# Altium footprint library A.PcbLib: 25 footprints (part 1 of 2)
Each footprint in its own frame and in the unit in brackets; x right, y up, seen from the top. Pads: shape width x height; smd on the part's side, far side on the other; paste and mask are expansions set on the pad; w line width, h text height; cw(c..) or ccw(c..) is an arc to the next point about the centre after c.
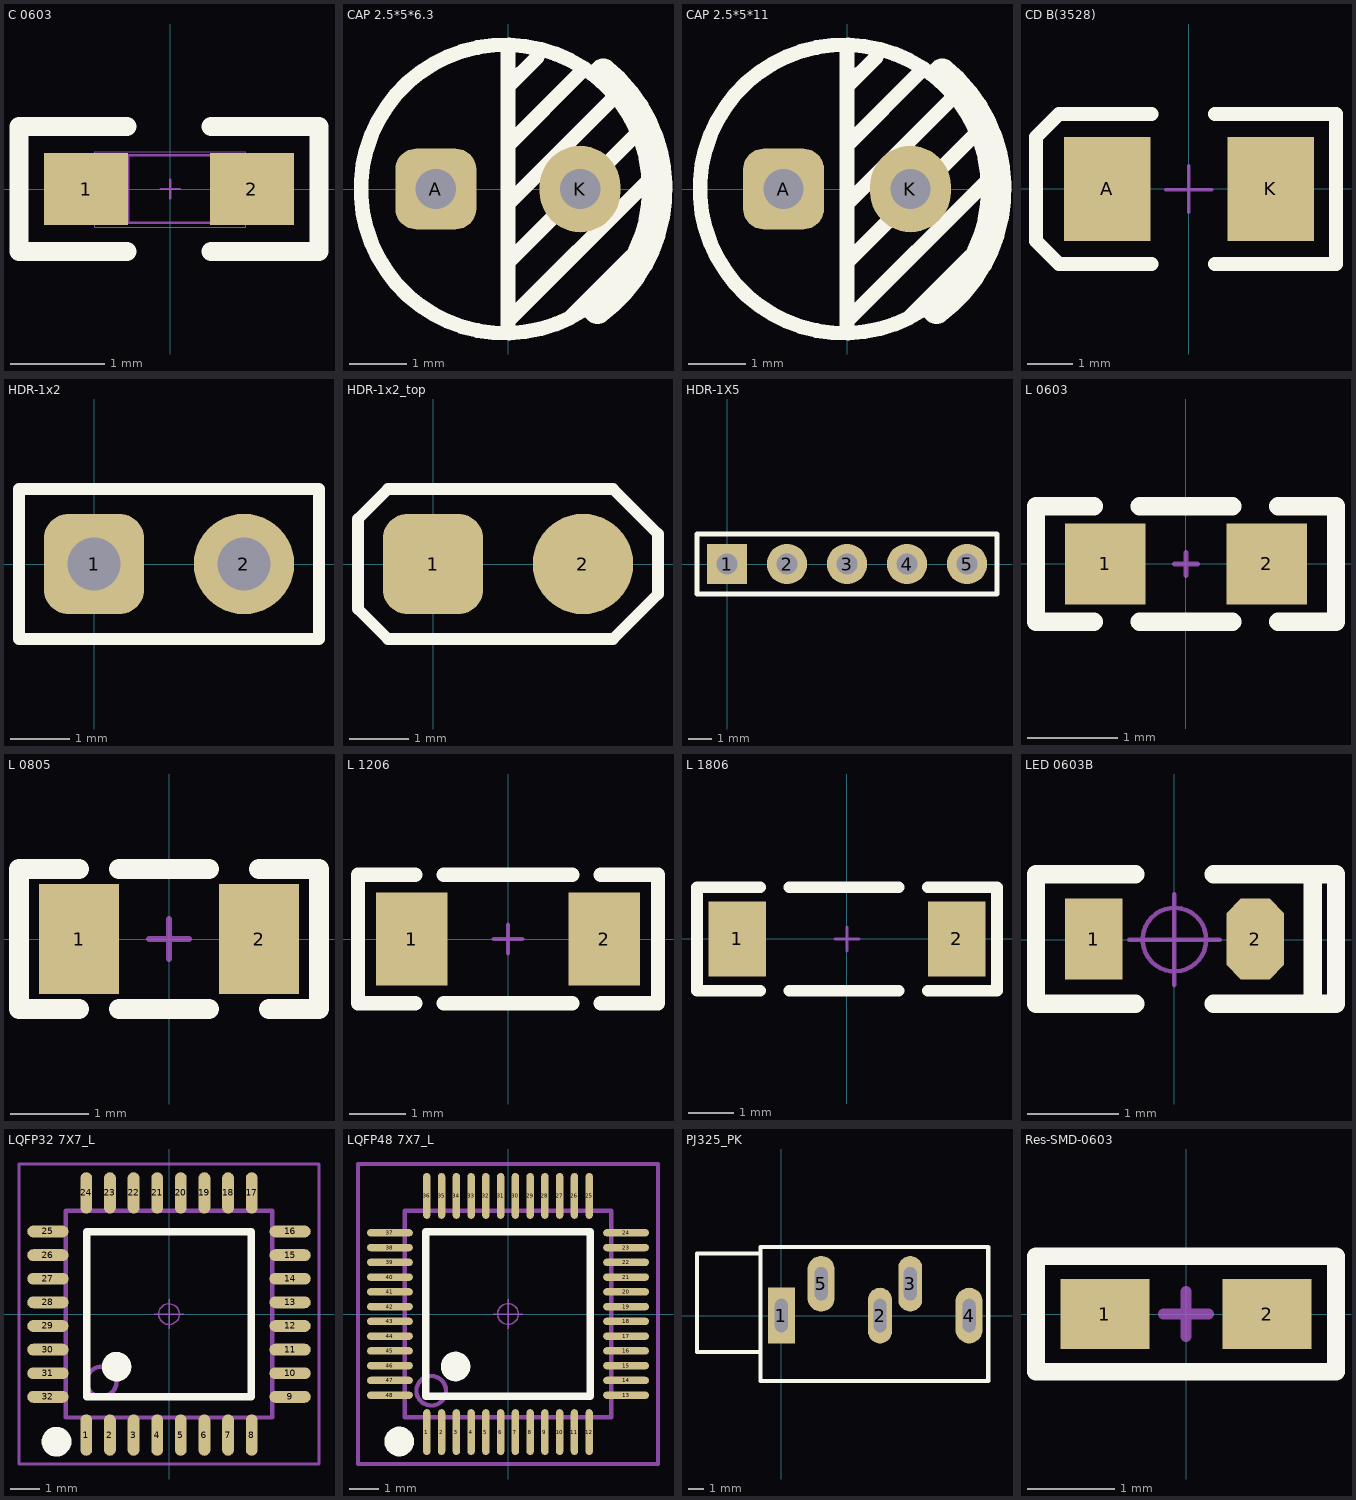
[diagram p0: the footprints below, top view; thin cyan lines are the x and y axes]

## C 0603 [mil] "无极性贴片电容"
pads (2):
  rect 35x30 smd: 1(-35,0) 2(34,0)
Top Overlay:
  lines w8: -18,-26 -63,-26 -63,26 -18,26 ; 17,-26 62,-26 62,26 17,26
Mechanical 13:
  lines w0.39: -31.5,-16 31.5,-16 31.5,15.5 -31.5,15.5 -31.5,-16
Mechanical 15:
  lines w1: -17.5,-14 -17.5,14 ; -3.94,0 3.94,0 ; 0,-3.94 0,3.94 ; 17.5,-14 17.5,14 ; -32,-14 32,-14 32,14 -32,14 -32,-14
3D body "C 0603.STEP": height 31.89, standoff -0.39, extent -31.5,-16.14 31.5,16.14

## CAP 2.5*5*6.3 [mm]
pads (2):
  rrect50% 1.4x1.4 hole 0.7: A(-1.25,0)
  oval 1.4x1.5 hole 0.7: K(1.25,0)
Top Overlay:
  circle w0.254: c-0.05,0 r2.5
  lines w0.254: 0,-2.489 0,2.413 ; 0,-2.286 2.438,0.152 ; 0,-1.27 2.222,0.953 ; 0,-0.254 1.841,1.587 ; 0,0.762 1.27,2.032 ; 0,1.778 0.508,2.286 ; 1.079,-2.222 2.134,-1.168
  lines w0.5: 1.552,-2.086 ccw(c0,0) 1.651,2.008
3D body "CAP 2.5X5X11.STEP": height 11.03, standoff -3.43, extent -2.5,-2.498 2.51,2.498

## CAP 2.5*5*11 [mm] "脚距2.5mm直径5mm高度11mm"
pads (2):
  rrect50% 1.4x1.4 hole 0.7: A(-1.1,0)
  oval 1.4x1.5 hole 0.7: K(1.1,0)
Top Overlay:
  circle w0.254: c-0.05,0 r2.5
  lines w0.254: 0,-2.489 0,2.413 ; 0,-2.286 2.438,0.152 ; 0,-1.27 2.222,0.953 ; 0,-0.254 1.841,1.587 ; 0,0.762 1.27,2.032 ; 0,1.778 0.508,2.286 ; 1.079,-2.222 2.134,-1.168
  lines w0.5: 1.552,-2.086 ccw(c0,0) 1.651,2.008
3D body "CAP 2.5X5X11.STEP": height 11.03, standoff -3.43, extent -2.5,-2.499 2.51,2.499

## CD B(3528) [mil] "长3.5mm，宽2.8mm，厚1.9mm"
pads (2):
  rect 75x90 smd: A(-70.87,-0.01) K(70.86,-0.01)
Top Overlay:
  lines w12: -32.51,-65.01 -112.51,-65.01 -132.51,-45.01 -132.51,44.99 -112.51,64.99 -32.51,64.99 ; 22.49,-65.01 127.49,-65.01 127.49,64.99 22.49,64.99
Mechanical 15:
  lines w3: -20.01,-0.79 19.99,-0.79 ; -0.01,-20.01 -0.01,19.99
3D body "CD B(3528).STEP": height 74.84, standoff -0.3, extent -68.92,-55.12 68.91,55.11

## HDR-1x2 [mm] "排针，2脚"
pads (2):
  rrect50% 1.7x1.7 hole 0.9: 1(0,0)
  round 1.7 hole 0.9: 2(2.54,0)
Top Overlay:
  lines w0.2: -1.27,-1.27 3.81,-1.27 3.81,1.27 -1.27,1.27 -1.27,-1.27
3D body "HDR2.54-1P.STEP": height 8.5, standoff -3, extent -1.27,-1.27 1.27,1.27
3D body "HDR2.54-1P.STEP": height 8.5, standoff -3, extent 1.27,-1.27 3.81,1.27

## HDR-1x2_top [mm] "排针，2脚"
pads (2):
  rrect50% 1.7x1.7 smd: 1(0,0)
  round 1.7 smd: 2(2.54,0)
Top Overlay:
  lines w0.2: -1.27,-0.762 -1.27,0.762 -0.762,1.27 3.048,1.27 3.81,0.508 3.81,-0.508 3.048,-1.27 -0.762,-1.27 -1.27,-0.762
3D body "HDR2.54-1P.STEP": height 8.5, standoff -3, extent 1.27,-1.27 3.81,1.27
3D body "HDR2.54-1P.STEP": height 8.5, standoff -3, extent -1.27,-1.27 1.27,1.27

## HDR-1X5 [mm] "排针，5脚"
pads (5):
  rect 1.7x1.7 hole 0.9: 1(0,0)
  round 1.7 hole 0.9: 2(2.54,0) 3(5.08,0) 4(7.62,0) 5(10.16,0)
Top Overlay:
  lines w0.2: -1.27,-1.27 -1.27,1.27 11.43,1.27 11.43,-1.27 -1.27,-1.27
3D body "HDR2.54-1P.STEP": height 8.5, standoff -3, extent 8.89,-1.27 11.43,1.27
3D body "HDR2.54-1P.STEP": height 8.5, standoff -3, extent 3.81,-1.27 6.35,1.27
3D body "HDR2.54-1P.STEP": height 8.5, standoff -3, extent 6.35,-1.27 8.89,1.27
3D body "HDR2.54-1P.STEP": height 8.5, standoff -3, extent -1.27,-1.27 1.27,1.27
3D body "HDR2.54-1P.STEP": height 8.5, standoff -3, extent 1.27,-1.27 3.81,1.27

## L 0603 [mil] "小功率贴片电感"
pads (2):
  rect 35x35 smd: 1(-35,0) 2(35,0)
Top Overlay:
  lines w8: -40,-25 -65,-25 -65,25 -40,25 ; -20,-25 20,-25 ; -20,25 20,25 ; 40,-25 65,-25 65,25 40,25
Mechanical 15:
  lines w2: -5,0 5,0 ; 0,-5 0,0 0,5
3D body "0603.STEP": height 31.5, standoff -0.11, extent -31.5,-15.75 31.5,15.75

## L 0805 [mil] "小功率贴片电感"
pads (2):
  rect 40x55 smd: 1(-45,0) 2(45,0)
Top Overlay:
  lines w10: -45,-35 -75,-35 -75,35 -45,35 ; -25,-35 20,-35 ; -25,35 20,35 ; 45,35 75,35 75,-35 50,-35
Mechanical 15:
  lines w3: -10,0 10,0 ; 0,-10 0,10
3D body "0805.STEP": height 35.43, standoff -0.11, extent -39.37,-23.62 39.37,23.62

## L 1206 [mil] "小功率贴片电感"
pads (2):
  rect 50x65 smd: 1(-67.5,0) 2(67.5,0)
Top Overlay:
  lines w10: -65,-45 -105,-45 -105,45 -65,45 ; -45,-45 45,-45 ; -45,45 45,45 ; 65,-45 105,-45 105,45 65,45
Mechanical 15:
  lines w3: -10,0 10,0 ; 0,-10 0,10
3D body "1206.STEP": height 35.43, standoff -0.19, extent -62.99,-31.5 62.99,31.5

## L 1806 [mil] "小功率贴片电感"
pads (2):
  rect 50x65 smd: 1(-95,0) 2(95,0)
Top Overlay:
  lines w10: -75,-45 -130,-45 -130,45 -75,45 ; -50,-45 45,-45 ; -50,45 45,45 ; 70,-45 130,-45 130,-40 130,-15 130,45 70,45
Mechanical 15:
  lines w3: -10,0 10,0 ; 0,-10 0,10
3D body "1806.STEP": height 62.99, standoff -0.19, extent -88.58,-31.5 88.58,31.5

## LED 0603B [mil] "蓝色0603LED"
pads (2):
  rect 25x35 smd: 1(-35,0.26)
  oct 25x35 smd: 2(35,0.26)
Top Overlay:
  lines w8: -17,-27.74 -60,-27.74 -60,28.26 -17,28.26 ; 17,-27.74 70,-27.74 70,28.26 61,28.26 ; 17,28.26 60,28.26 60,-27.74
Mechanical 15:
  circle w1.97: c0,0 r13.78
  lines w1.97: -19.68,0 19.68,0 ; 0,-19.68 0,19.68
3D body "LED 0603-B.STEP": height 18.36, standoff -0.16, extent -31.49,-15.79 31.5,15.79
3D body "LED 0603玻璃罩.STEP": height 23.82, standoff 8.07, extent -23.58,-15.79 23.58,15.79

## LQFP32 7X7_L [mm] "32脚，体宽7x7mm，脚距0.8mm"
pads (32):
  oval 0.4x1.4 smd: 1(-2.8,-4.096) 2(-2,-4.096) 3(-1.2,-4.096) 4(-0.4,-4.096) 5(0.4,-4.096) 6(1.2,-4.096) 7(2,-4.096) 8(2.8,-4.096) 17(2.8,4.108) 18(2,4.108) 19(1.2,4.108) 20(0.4,4.108) 21(-0.4,4.108) 22(-1.2,4.108) 23(-2,4.108) 24(-2.8,4.108)
  oval 1.4x0.4 smd: 9(4.102,-2.8) 10(4.102,-2) 11(4.102,-1.2) 12(4.102,-0.4) 13(4.102,0.4) 14(4.102,1.2) 15(4.102,2) 16(4.102,2.8) 25(-4.102,2.8) 26(-4.102,2) 27(-4.102,1.2) 28(-4.102,0.4) 29(-4.102,-0.4) 30(-4.102,-1.2) 31(-4.102,-2) 32(-4.102,-2.8)
Top Overlay:
  circle w0.5: c-1.778,-1.778 r0.25
  circle w0.508: c-3.81,-4.318 r0.25
  lines w0.254: -2.794,-2.794 2.794,-2.794 2.794,2.794 -2.794,2.794 -2.794,-2.794
Mechanical 13:
  circle w0.15: c-2.286,-2.286 r0.508
  lines w0.15: -3.5,-3.5 -3.5,3.5 3.5,3.5 3.5,-3.5 -3.5,-3.5
Mechanical 15:
  circle w0.05: c0,0 r0.35
  lines w0.05: -0.5,0 0.5,0 ; 0,-0.5 0,0.5
  lines w0.1: -5.08,-5.074 -5.08,5.086 5.08,5.086 5.08,-5.074 -5.08,-5.074
3D body "LQFP32-7x7.STEP": height 1.45, standoff 0, extent -4.503,-4.503 4.503,4.503

## LQFP48 7X7_L [mm] "48脚，体宽7x7mm，脚距0.5mm"
height 1.6
pads (48):
  oval 0.25x1.55 smd: 1(-2.75,-4) 2(-2.25,-4) 3(-1.75,-4) 4(-1.25,-4) 5(-0.75,-4) 6(-0.25,-4) 7(0.25,-4) 8(0.75,-4) 9(1.25,-4) 10(1.75,-4) 11(2.25,-4) 12(2.75,-4) 25(2.75,4) 26(2.25,4) 27(1.75,4) 28(1.25,4) 29(0.75,4) 30(0.25,4) 31(-0.25,4) 32(-0.75,4) 33(-1.25,4) 34(-1.75,4) 35(-2.25,4) 36(-2.75,4)
  oval 1.55x0.25 smd: 13(4,-2.75) 14(4,-2.25) 15(4,-1.75) 16(4,-1.25) 17(4,-0.75) 18(4,-0.25) 19(4,0.25) 20(4,0.75) 21(4,1.25) 22(4,1.75) 23(4,2.25) 24(4,2.75) 37(-4,2.75) 38(-4,2.25) 39(-4,1.75) 40(-4,1.25) 41(-4,0.75) 42(-4,0.25) 43(-4,-0.25) 44(-4,-0.75) 45(-4,-1.25) 46(-4,-1.75) 47(-4,-2.25) 48(-4,-2.75)
Top Overlay:
  circle w0.508: c-3.683,-4.318 r0.25
  circle w0.5: c-1.778,-1.778 r0.25
  lines w0.254: -2.794,-2.794 -2.794,2.794 2.794,2.794 2.794,-2.794 -2.794,-2.794
Mechanical 13:
  circle w0.15: c-2.6,-2.6 r0.5
  lines w0.15: -3.5,-3.5 -3.5,3.5 3.5,3.5 3.5,-3.5 -3.5,-3.5
Mechanical 15:
  circle w0.05: c0,0 r0.35
  lines w0.05: -0.5,0 0.5,0 ; 0,-0.5 0,0.5
  lines w0.15: -5.08,-5.08 -5.08,5.08 5.08,5.08 5.08,-5.08 -5.08,-5.08
3D body "LQFP48-7x7.STEP": height 1.45, standoff 0, extent -4.503,-4.503 4.503,4.503

## PJ325_PK [mm] "粉色，18*8.1*12.3mm"
pads (5):
  rect 1.7x3.5 hole 0.8 slot 2.1 at 90 deg: 1(0,0)
  oval 1.5x3.5 hole 0.8 slot 2.1 at 90 deg: 2(6.2,0) 3(8.1,2)
  oval 1.7x3.5 hole 0.8 slot 2.1 at 90 deg: 4(11.8,0) 5(2.5,2)
Top Overlay:
  lines w0.254: -1.3,-2.3 -5.3,-2.3 -5.3,3.9 -1.3,3.9 ; -1.3,-4.1 -1.3,4.3 13,4.3 13,-4.1 -1.3,-4.1
3D body "PJ325_PK.STEP": height 12.35, standoff -2.9, extent -5.23,-3.9 12.8,4.2

## Res-SMD-0603 [mil] "1/10W贴片电阻"
pads (2):
  rect 40x31.5 smd: 1(-36.5,0) 2(36.5,0)
Top Overlay:
  lines w8: -67.5,-26 -67.5,26 67.5,26 67.5,-26 -67.5,-26
Mechanical 15:
  lines w5: -10,0 10,0 ; 0,-10 0,10
3D body "R 0603.STEP": height 15.79, standoff -0.13, extent -31.49,-15.74 31.5,15.75